# EAGLE library part AD7193A (library Taylor)
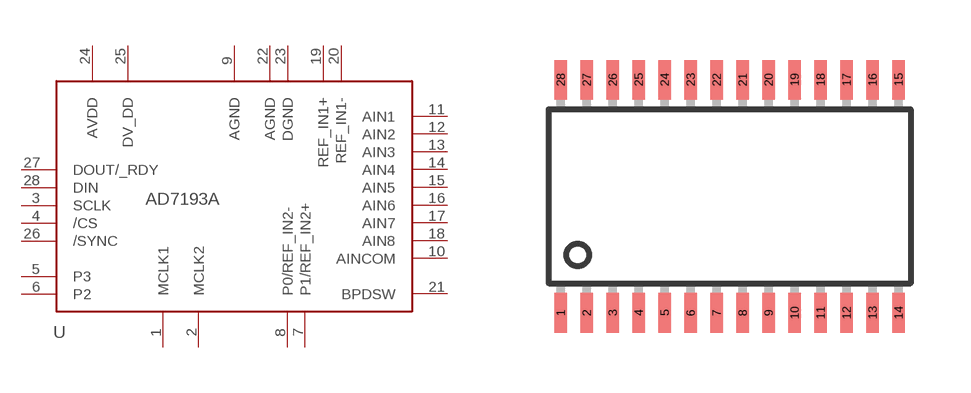
[diagram p22: symbol with the pads of TSSOP28; footprint TSSOP28]

Designator prefix -

## AD7193A  [TSSOP28]
1  MCLK1
2  MCLK2
3  SCLK
4  /CS
5  P3
6  P2
7  P1/REF_IN2+
8  P0/REF_IN2-
9  AGND
10  AINCOM
11  AIN1
12  AIN2
13  AIN3
14  AIN4
15  AIN5
16  AIN6
17  AIN7
18  AIN8
19  REF_IN1+
20  REF_IN1-
21  BPDSW
22  AGND
23  DGND
24  AVDD
25  DV_DD
26  /SYNC
27  DOUT/_RDY
28  DIN

## Footprint TSSOP28 (pad centres in mm)
24-Lead Thin Shrink Small Outline Package TSSOP (RU-24) Source: http://www.analog.com/UploadedFiles/Data_Sheets/39677768AD7714_c.pdf
smd 0.305 x 0.991: 1 -3.575,-2.918; 2 -2.925,-2.918; 3 -2.275,-2.918; 4 -1.625,-2.918; 5 -0.975,-2.918; 6 -0.325,-2.918; 7 0.325,-2.918; 8 0.975,-2.918; 9 1.625,-2.918; 10 2.275,-2.918; 11 2.925,-2.918; 12 3.575,-2.918; 13 4.225,-2.918; 14 4.875,-2.918; 15 4.875,2.918; 16 4.225,2.918; 17 3.575,2.918; 18 2.925,2.918; 19 2.275,2.918; 20 1.625,2.918; 21 0.975,2.918; 22 0.325,2.918; 23 -0.325,2.918; 24 -0.975,2.918; 25 -1.625,2.918; 26 -2.275,2.918; 27 -2.925,2.918; 28 -3.575,2.918